# Altium footprint library CUI PJ-075-SMT.PCBLIB: 1 footprints
Each footprint in its own frame and in the unit in brackets; x right, y up, seen from the top. Pads: shape width x height; smd on the part's side, far side on the other; paste and mask are expansions set on the pad; w line width, h text height; cw(c..) or ccw(c..) is an arc to the next point about the centre after c.
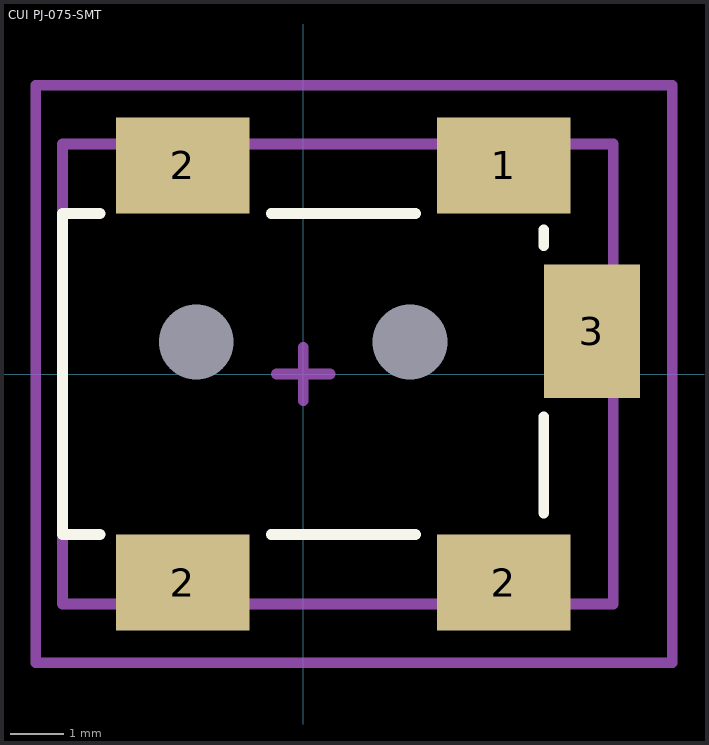
[diagram p0: the footprint, top view; thin cyan lines are the x and y axes]

## CUI PJ-075-SMT [mm]
height 4.8
pads (7):
  rect 2.5x1.8 smd: 1(3.75,3.9) 2(-2.25,-3.9) 2(-2.25,3.9) 2(3.75,-3.9)
  rect 1.8x2.5 smd: 3(5.4,0.8)
  round 0 hole 1.4 unplated: M(-2,0.6) M(2,0.6)
Top Overlay:
  lines w0.2: -3.8,-3 -4.5,-3 -4.5,3 -3.8,3 ; -0.6,-3 2.1,-3 ; -0.6,3 2.1,3 ; 4.5,-2.6 4.5,-0.8 ; 4.5,2.4 4.5,2.7
Mechanical 1:
  lines w0.2: -4.5,-4.3 -4.5,4.3 5.8,4.3 5.8,-4.3 -4.5,-4.3
Milling:
  lines w0.2: -0.5,0 0.5,0 ; 0,-0.5 0,0.5 ; -5,-5.4 6.9,-5.4 6.9,5.4 -5,5.4 -5,-5.4
3D body "CUI PJ-075DH-SMT.STEP": height 4.8, standoff -0.4, extent -4.5,-4.3 5.8,4.3